# Altium footprint library Connectors.PcbLib: 44 footprints (part 1 of 3)
Each footprint in its own frame and in the unit in brackets; x right, y up, seen from the top. Pads: shape width x height; smd on the part's side, far side on the other; paste and mask are expansions set on the pad; w line width, h text height; cw(c..) or ccw(c..) is an arc to the next point about the centre after c.
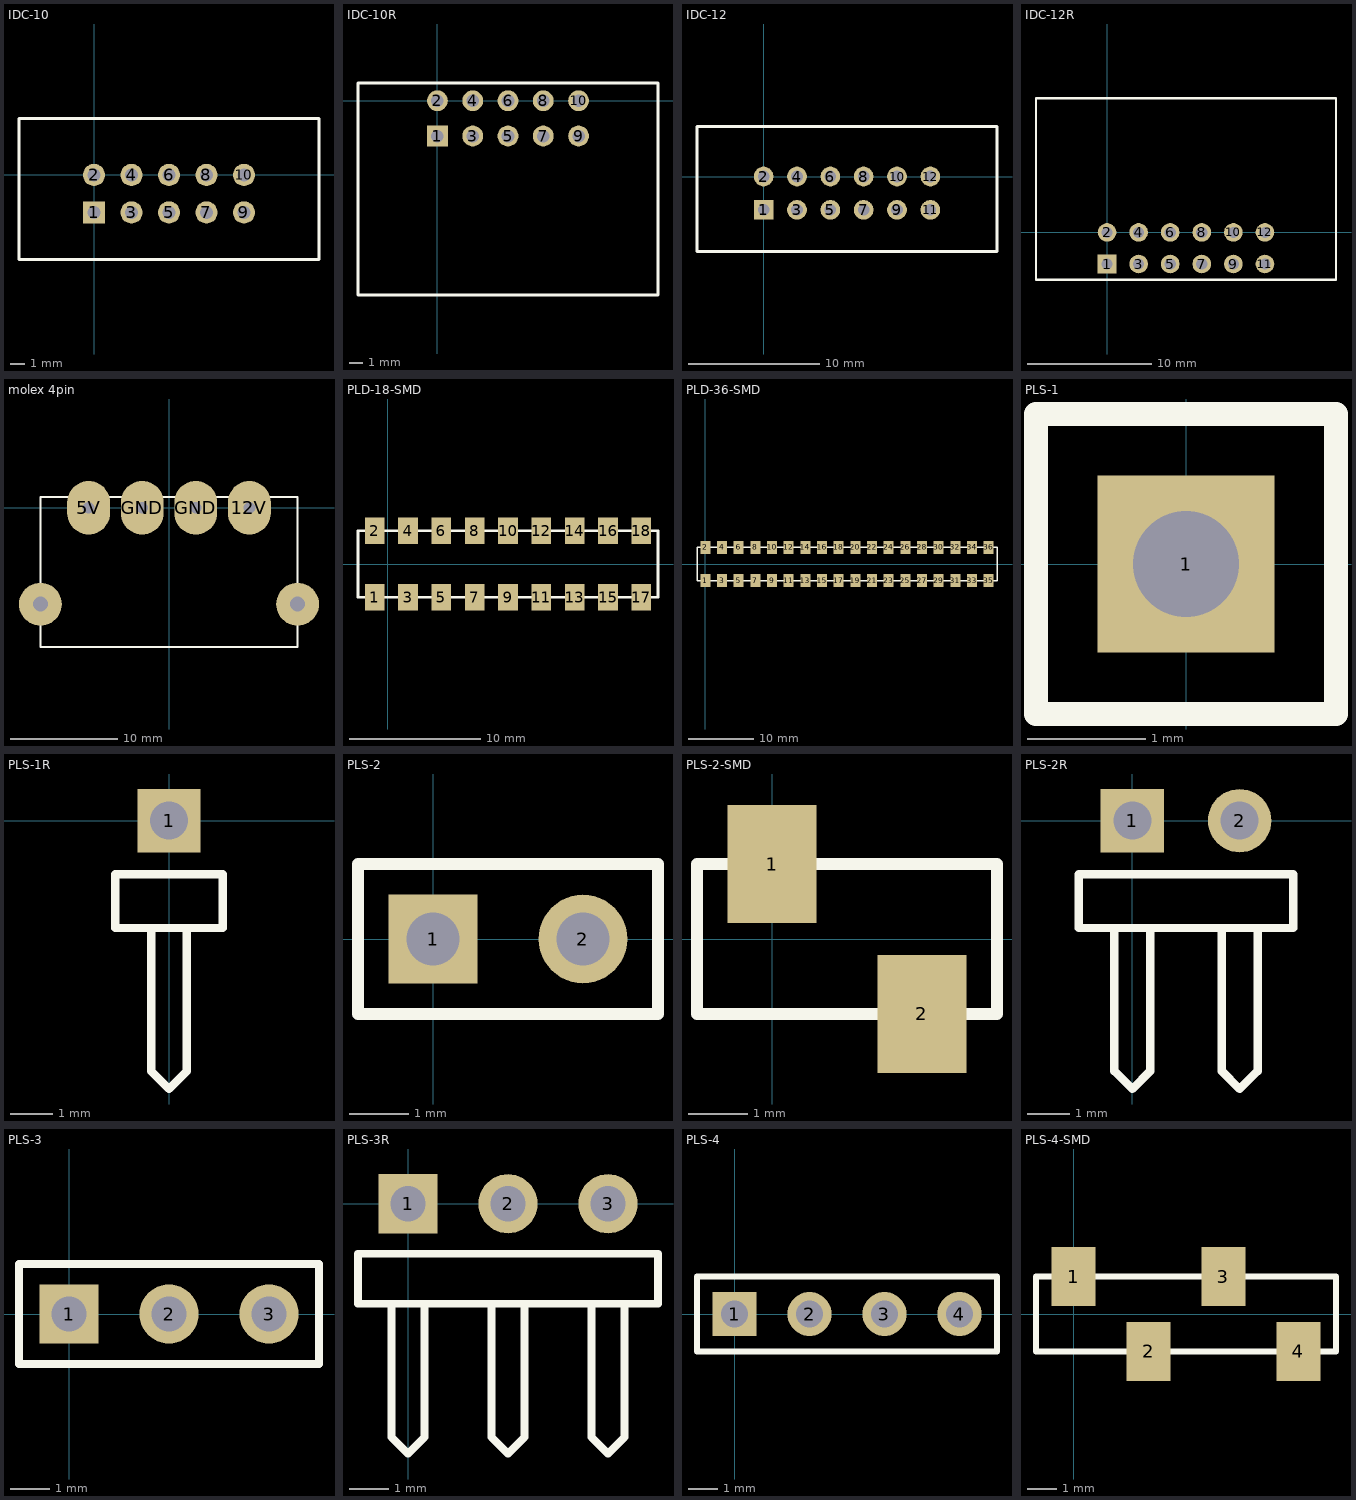
[diagram p0: the footprints below, top view; thin cyan lines are the x and y axes]

## IDC-10 [mm]
pads (10):
  rect 1.5x1.5 hole 0.9: 1(0,-2.54)
  round 1.5 hole 0.9: 2(0,0) 3(2.54,-2.54) 4(2.54,0) 5(5.08,-2.54) 6(5.08,0) 7(7.62,-2.54) 8(7.62,0) 9(10.16,-2.54) 10(10.16,0)
Top Overlay:
  lines w0.2: -5.08,-5.715 -5.08,3.81 15.24,3.81 15.24,-5.715 -5.08,-5.715
3D body "User Library-IDC Socket Male 10pin Straight THT Goldplated 2_54mm.step": height 8.91, standoff -3.49, extent -5.07,-5.52 15.23,3.33

## IDC-10R [mm]
pads (10):
  rect 1.5x1.5 hole 0.9: 1(0,-2.54)
  round 1.5 hole 0.9: 2(0,0) 3(2.54,-2.54) 4(2.54,0) 5(5.08,-2.54) 6(5.08,0) 7(7.62,-2.54) 8(7.62,0) 9(10.16,-2.54) 10(10.16,0)
Top Overlay:
  lines w0.2: -5.715,-13.97 15.875,-13.97 15.875,1.27 0.635,1.27 -5.715,1.27 -5.715,-13.97
3D body "User Library-IDC Socket Male 10pin Angled THT Goldplated 2_54mm.step": height 8.46, standoff -2.89, extent -5.39,-13.56 15.55,0

## IDC-12 [mm]
pads (12):
  rect 1.5x1.5 hole 0.9: 1(0,-2.54)
  round 1.5 hole 0.9: 2(0,0) 3(2.54,-2.54) 4(2.54,0) 5(5.08,-2.54) 6(5.08,0) 7(7.62,-2.54) 8(7.62,0) 9(10.16,-2.54) 10(10.16,0) 11(12.7,-2.54) 12(12.7,0)
Top Overlay:
  lines w0.2: -5.08,-5.715 17.78,-5.715 17.78,3.81 -5.08,3.81 -5.08,-5.715
3D body "User Library-IDC Socket Male 12pin Straight THT Goldplated 2_54mm.step": height 8.91, standoff -3.49, extent -5.07,-5.52 17.77,3.33

## IDC-12R [mm]
pads (12):
  rect 1.5x1.5 hole 0.9: 1(0,-2.54)
  round 1.5 hole 0.9: 2(0,0) 3(2.54,-2.54) 4(2.54,0) 5(5.08,-2.54) 6(5.08,0) 7(7.62,-2.54) 8(7.62,0) 9(10.16,-2.54) 10(10.16,0) 11(12.7,-2.54) 12(12.7,0)
Top Overlay:
  lines w0.2: -5.715,-3.81 18.415,-3.81 18.415,10.795 -5.715,10.795 -5.715,-3.81
3D body "User Library-IDC Socket Male 12pin Angled THT Goldplated 2_54mm.step": height 8.46, standoff -2.89, extent -5.39,-2.921 18.09,10.639

## molex 4pin [mm]
height 7
pads (6):
  oval 4x5 hole 1.1: 5V(-7.5,0) 12V(7.5,0) GND(-2.5,0) GND(2.5,0)
  round 4 hole 1.4: ""(-12,-9) ""(12,-9)
Top Overlay:
  lines w0.2: -12,-13 -12,1 12,1 12,-13 -12,-13
3D body "User Library-Molex disk drive power connector.step": height 8.9, standoff 0.01, extent -11.684,-13.192 11.684,-1

## PLD-18-SMD [mm]
pads (18):
  rect 1.5x2 smd: 1(-1,-2.54) 2(-1,2.54) 3(1.54,-2.54) 4(1.54,2.54) 5(4.08,-2.54) 6(4.08,2.54) 7(6.62,-2.54) 8(6.62,2.54) 9(9.16,-2.54) 10(9.16,2.54) 11(11.7,-2.54) 12(11.7,2.54) 13(14.24,-2.54) 14(14.24,2.54) 15(16.78,-2.54) 16(16.78,2.54) 17(19.32,-2.54) 18(19.32,2.54)
Top Overlay:
  lines w0.2: -2.27,-2.54 -2.27,2.54 20.59,2.54 20.59,-2.54 -2.27,-2.54
3D body "pcb_connector_802-80-018-30-001101.stp": height 4, standoff -5.7, extent -2.27,-3.4 20.59,3.4

## PLD-36-SMD [mm]
pads (36):
  rect 1.5x2 smd: 1(0,-2.54) 2(0,2.54) 3(2.54,-2.54) 4(2.54,2.54) 5(5.08,-2.54) 6(5.08,2.54) 7(7.62,-2.54) 8(7.62,2.54) 9(10.16,-2.54) 10(10.16,2.54) 11(12.7,-2.54) 12(12.7,2.54) 13(15.24,-2.54) 14(15.24,2.54) 15(17.78,-2.54) 16(17.78,2.54) 17(20.32,-2.54) 18(20.32,2.54) 19(22.86,-2.54) 20(22.86,2.54) 21(25.4,-2.54) 22(25.4,2.54) 23(27.94,-2.54) 24(27.94,2.54) 25(30.48,-2.54) 26(30.48,2.54) 27(33.02,-2.54) 28(33.02,2.54) 29(35.56,-2.54) 30(35.56,2.54) 31(38.1,-2.54) 32(38.1,2.54) 33(40.64,-2.54) 34(40.64,2.54) 35(43.18,-2.54) 36(43.18,2.54)
Top Overlay:
  lines w0.2: -1.27,-2.54 44.45,-2.54 44.45,2.54 -1.27,2.54 -1.27,-2.54
3D body "pcb_connector_802-80-018-30-001101.stp": height 9.7, standoff 0, extent -1.27,-3.4 21.59,3.4
3D body "pcb_connector_802-80-018-30-001101.stp": height 9.7, standoff 0, extent 21.59,-3.4 44.45,3.4

## PLS-1 [mm]
pads (1):
  rect 1.5x1.5 hole 0.9: 1(0,0)
Top Overlay:
  lines w0.2: -1.27,-1.27 -1.27,1.27 1.27,1.27 1.27,-1.27 -1.27,-1.27
3D body "User Library-PLS-1.step": height 8.44, standoff -3, extent -1.27,-1.27 1.27,1.27

## PLS-1R [mm]
pads (1):
  rect 1.5x1.5 hole 0.9: 1(0,0)
Top Overlay:
  lines w0.2: -0.423,-2.54 -0.423,-5.927 0,-6.35 0.423,-5.927 0.423,-2.54 ; -1.27,-2.54 1.27,-2.54 1.27,-1.27 -1.27,-1.27 -1.27,-2.54
3D body "User Library-PLS-1R gold.step": height 5.45, standoff -3, extent -1.27,-7.35 1.27,1.27

## PLS-2 [mm]
pads (2):
  rect 1.5x1.5 hole 0.9: 1(0,0)
  round 1.5 hole 0.9: 2(2.54,0)
Top Overlay:
  lines w0.2: -1.27,-1.27 -1.27,1.27 3.81,1.27 3.81,-1.27 -1.27,-1.27
3D body "User Library-PLS-1.step": height 8.44, standoff -3, extent -1.27,-1.27 1.27,1.27
3D body "User Library-PLS-1.step": height 8.44, standoff -3, extent 1.27,-1.27 3.81,1.27

## PLS-2-SMD [mm]
pads (2):
  rect 1.5x2 smd: 1(0,1.27) 2(2.54,-1.27)
Top Overlay:
  lines w0.2: -1.27,-1.27 3.81,-1.27 3.81,1.27 -1.27,1.27 -1.27,-1.27

## PLS-2R [mm]
pads (2):
  rect 1.5x1.5 hole 0.9: 1(0,0)
  round 1.5 hole 0.9: 2(2.54,0)
Top Overlay:
  lines w0.2: -0.423,-2.54 -0.423,-5.927 0,-6.35 0.423,-5.927 0.423,-2.54 ; 2.117,-2.54 2.117,-5.927 2.54,-6.35 2.963,-5.927 2.963,-2.54 ; -1.27,-2.54 3.81,-2.54 3.81,-1.27 -1.27,-1.27 -1.27,-2.54
3D body "User Library-PLS-2R gold.step": height 5.45, standoff -3, extent -1.27,-7.35 3.81,1.27

## PLS-3 [mm]
pads (3):
  rect 1.5x1.5 hole 0.9: 1(0,0)
  round 1.5 hole 0.9: 2(2.54,0) 3(5.08,0)
Top Overlay:
  lines w0.2: -1.27,-1.27 -1.27,1.27 6.35,1.27 6.35,-1.27 -1.27,-1.27
3D body "User Library-PLS-1.step": height 8.44, standoff -3, extent -1.27,-1.27 1.27,1.27
3D body "User Library-PLS-1.step": height 8.44, standoff -3, extent 1.27,-1.27 3.81,1.27
3D body "User Library-PLS-1.step": height 8.44, standoff -3, extent 3.81,-1.27 6.35,1.27

## PLS-3R [mm]
pads (3):
  rect 1.5x1.5 hole 0.9: 1(0,0)
  round 1.5 hole 0.9: 2(2.54,0) 3(5.08,0)
Top Overlay:
  lines w0.2: -0.423,-2.54 -0.423,-5.927 0,-6.35 0.423,-5.927 0.423,-2.54 ; 2.117,-2.54 2.117,-5.927 2.54,-6.35 2.963,-5.927 2.963,-2.54 ; 4.657,-2.54 4.657,-5.927 5.08,-6.35 5.503,-5.927 5.503,-2.54 ; -1.27,-2.54 -1.27,-1.27 6.35,-1.27 6.35,-2.54 -1.27,-2.54
3D body "User Library-PLS-3R gold.step": height 5.45, standoff -3, extent -1.27,-7.35 6.35,1.27

## PLS-4 [mm]
pads (4):
  rect 1.5x1.5 hole 0.9: 1(0,0)
  round 1.5 hole 0.9: 2(2.54,0) 3(5.08,0) 4(7.62,0)
Top Overlay:
  lines w0.2: -1.27,-1.27 8.89,-1.27 8.89,1.27 -1.27,1.27 -1.27,-1.27
3D body "User Library-PLS-1.step": height 8.44, standoff -3, extent -1.27,-1.27 1.27,1.27
3D body "User Library-PLS-1.step": height 8.44, standoff -3, extent 1.27,-1.27 3.81,1.27
3D body "User Library-PLS-1.step": height 8.44, standoff -3, extent 3.81,-1.27 6.35,1.27
3D body "User Library-PLS-1.step": height 8.44, standoff -3, extent 6.35,-1.27 8.89,1.27

## PLS-4-SMD [mm]
pads (4):
  rect 1.5x2 smd: 1(0,1.27) 2(2.54,-1.27) 3(5.08,1.27) 4(7.62,-1.27)
Top Overlay:
  lines w0.2: -1.27,-1.27 8.89,-1.27 8.89,1.27 -1.27,1.27 -1.27,-1.27
3D body "pcb_connector_800-80-004-30-001101.STEP": height 9.75, standoff 0.05, extent -1.27,-2.2 8.89,2.2